# EAGLE library part PI_GPIO_13X2_PIN_HEADER (library Nwazet.Go)
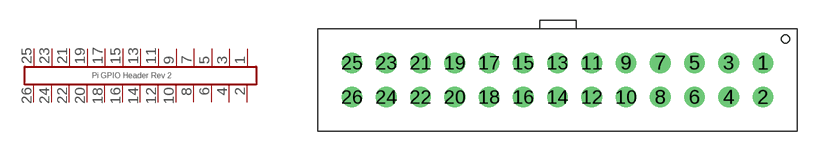
[diagram p19: symbol with the pads of PIN_HEADER_13X2_POSITIONS_DIL; footprint PIN_HEADER_13X2_POSITIONS_DIL]

Designator prefix -

## PI_GPIO_13X2_PIN_HEADER  [PIN_HEADER_13X2_POSITIONS_DIL]
1  P1_3V3  pwr
2  P2_5V  pwr
3  P3_GPIO2_SDA
4  P4_5V  pwr
5  P5_GPIO3_SCL
6  P6_GND  pas
7  P7_GPIO4
8  P8_GPIO14_UART0_TXD
9  P9_GND  pas
10  P10_GPIO15_UART0_RXD
11  P11_GPIO17
12  P12_GPIO18
13  P13_GPIO27
14  P14_GND  pas
15  P15_GPIO22
16  P16_GPIO23
17  P17_3V3  pwr
18  P18_GPIO24
19  P19_GPIO10_SPI0_MOSI
20  P20_GND  pas
21  P21_GPIO9_SPI0_MISO
22  P22_GPIO25
23  P23_GPIO11_SPI0_SCLK
24  P24_GPIO8_SPI0_CE0
25  P25_GND  pas
26  P26_GPIO7_SPI0_CE1

## Footprint PIN_HEADER_13X2_POSITIONS_DIL (pad centres in mm)
drill 1.016: 1 15.24,2.54; 2 15.24,0; 3 12.7,2.54; 4 12.7,0; 5 10.16,2.54; 6 10.16,0; 7 7.62,2.54; 8 7.62,0; 9 5.08,2.54; 10 5.08,0; 11 2.54,2.54; 12 2.54,0; 13 0,2.54; 14 0,0; 15 -2.54,2.54; 16 -2.54,0; 17 -5.08,2.54; 18 -5.08,0; 19 -7.62,2.54; 20 -7.62,0; 21 -10.16,2.54; 22 -10.16,0; 23 -12.7,2.54; 24 -12.7,0; 25 -15.24,2.54; 26 -15.24,0